# Altium footprint library Leaded.PcbLib: 147 footprints (part 1 of 10)
Each footprint in its own frame and in the unit in brackets; x right, y up, seen from the top. Pads: shape width x height; smd on the part's side, far side on the other; paste and mask are expansions set on the pad; w line width, h text height; cw(c..) or ccw(c..) is an arc to the next point about the centre after c.
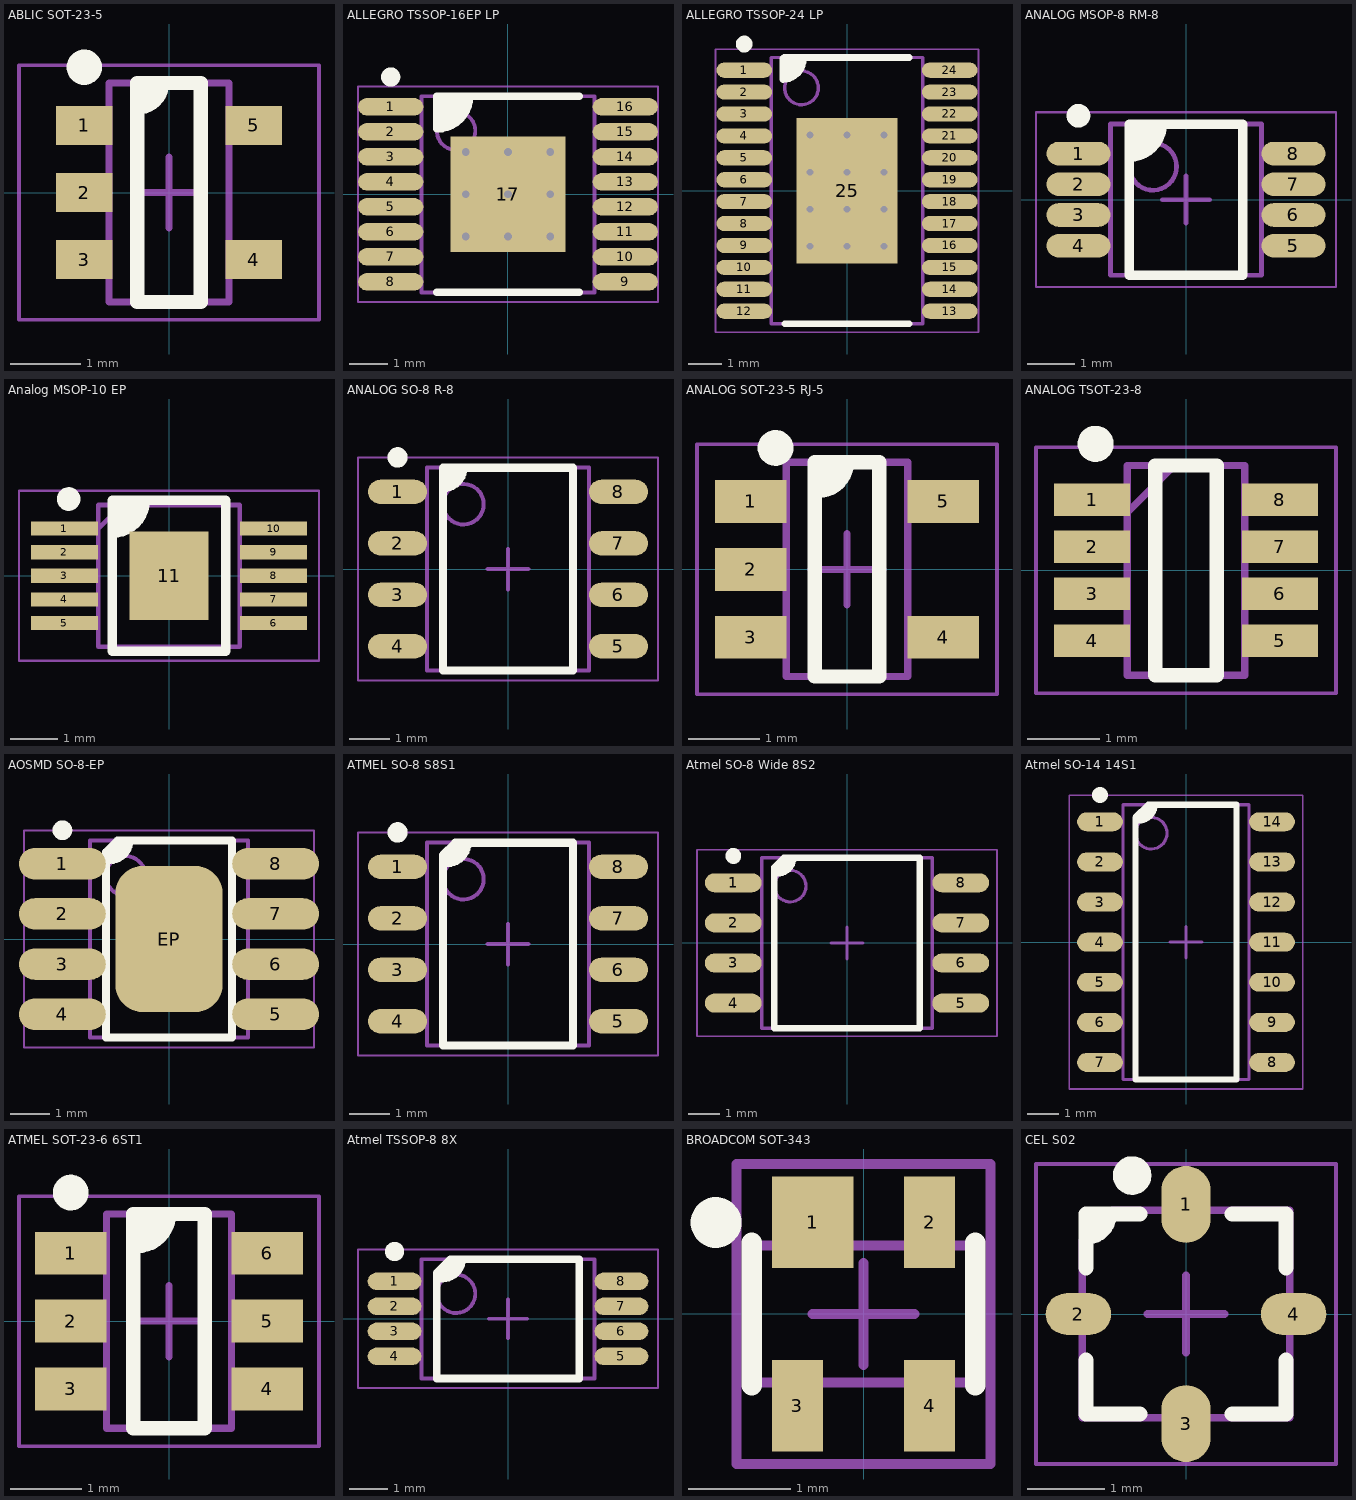
[diagram p0: the footprints below, top view; thin cyan lines are the x and y axes]

## ABLIC SOT-23-5 [mm] "SOT23, 5-Leads, Body 3.00x2.85mm, Pitch 0.95mm, IPC Medium Density"
height 1.3
pads (5):
  rect 0.8x0.55 smd: 1(-1.2,0.95) 2(-1.2,0) 3(-1.2,-0.95) 4(1.2,-0.95) 5(1.2,0.95)
Top Overlay:
  circle w0.25: c-1.2,1.775 r0.125
  region: -0.1,1.55 -0.4,1.55 -0.4,1.25 -0.45,1.2 -0.3,1.2 -0.2,1.3
  lines w0.2: -0.45,1.2 ccw(c-0.45,1.55) -0.1,1.55 ; -0.45,-1.55 -0.45,1.55 0.45,1.55 0.45,-1.55 -0.45,-1.55
Top Component Outline:
  lines w0.1: -0.85,-1.55 0.85,-1.55 0.85,1.55 -0.85,1.55 -0.85,-1.55
Top Courtyard:
  lines w0.05: -2.125,-1.8 2.125,-1.8 2.125,1.8 -2.125,1.8 -2.125,-1.8
  lines w0.1: -0.5,0 0.5,0 ; 0,-0.5 0,0.5
3D body "SOT-23-5.STEP": height 1.5, standoff 0, extent -1.41,-1.45 1.411,1.45

## ALLEGRO TSSOP-16EP LP [mm] "TSSOP, 16-Leads, Body 5.00x4.40mm, Pitch 0.65mm, Thermal Pad 3.00x3.00mm, IPC Medium Density"
height 1.2
pads (17):
  oval 1.7x0.45 smd: 1(-3.05,2.275) 2(-3.05,1.625) 3(-3.05,0.975) 4(-3.05,0.325) 5(-3.05,-0.325) 6(-3.05,-0.975) 7(-3.05,-1.625) 8(-3.05,-2.275) 9(3.05,-2.275) 10(3.05,-1.625) 11(3.05,-0.975) 12(3.05,-0.325) 13(3.05,0.325) 14(3.05,0.975) 15(3.05,1.625) 16(3.05,2.275)
  rect 3x3 smd: 17(0,0)
via 1.1,-1.1 diameter 0.5 hole 0.2
via 0,-1.1 diameter 0.5 hole 0.2
via -1.1,-1.1 diameter 0.5 hole 0.2
via 1.1,0 diameter 0.5 hole 0.2
via 0,0 diameter 0.5 hole 0.2
via -1.1,0 diameter 0.5 hole 0.2
via 1.1,1.1 diameter 0.5 hole 0.2
via 0,1.1 diameter 0.5 hole 0.2
via -1.1,1.1 diameter 0.5 hole 0.2
Top Overlay:
  circle w0.25: c-3.05,3.05 r0.125
  region: -1.85,2.55 -1,2.55 -1,2.2 -1.5,1.7 -1.85,1.7
  lines w0.2: -1.85,-2.55 1.85,-2.55 ; -1,2.55 cw(c-1.85,2.55) -1.85,1.7 -1.85,2.55 1.85,2.55
Top Component Outline:
  circle w0.1: c-1.35,1.65 r0.5
  lines w0.1: -2.25,-2.55 2.25,-2.55 2.25,2.55 -2.25,2.55 -2.25,-2.55
Top Courtyard:
  lines w0.05: -3.9,-2.8 3.9,-2.8 3.9,2.8 -3.9,2.8 -3.9,-2.8
  lines w0.1: -0.5,0 0.5,0 ; 0,-0.5 0,0.5
3D body "Allegro TSSOP-16.STEP": height 1.2, standoff 0, extent -3.206,-2.5 3.206,2.5

## ALLEGRO TSSOP-24 LP [mm] "TSSOP, 24-Leads, Body 7.80x4.40mm, Pitch 0.65mm, Thermal Pad 4.32x3.00mm, IPC Medium Density"
height 1.2
pads (25):
  oval 1.65x0.45 smd: 1(-3.05,3.575) 2(-3.05,2.925) 3(-3.05,2.275) 4(-3.05,1.625) 5(-3.05,0.975) 6(-3.05,0.325) 7(-3.05,-0.325) 8(-3.05,-0.975) 9(-3.05,-1.625) 10(-3.05,-2.275) 11(-3.05,-2.925) 12(-3.05,-3.575) 13(3.05,-3.575) 14(3.05,-2.925) 15(3.05,-2.275) 16(3.05,-1.625) 17(3.05,-0.975) 18(3.05,-0.325) 19(3.05,0.325) 20(3.05,0.975) 21(3.05,1.625) 22(3.05,2.275) 23(3.05,2.925) 24(3.05,3.575)
  rect 3x4.32 smd: 25(0,0)
via 1.1,-1.65 diameter 0.5 hole 0.2
via 0,-1.65 diameter 0.5 hole 0.2
via -1.1,-1.65 diameter 0.5 hole 0.2
via 1.1,-0.55 diameter 0.5 hole 0.2
via 0,-0.55 diameter 0.5 hole 0.2
via -1.1,-0.55 diameter 0.5 hole 0.2
via 1.1,0.55 diameter 0.5 hole 0.2
via 0,0.55 diameter 0.5 hole 0.2
via -1.1,0.55 diameter 0.5 hole 0.2
via 1.1,1.65 diameter 0.5 hole 0.2
via 0,1.65 diameter 0.5 hole 0.2
via -1.1,1.65 diameter 0.5 hole 0.2
Top Overlay:
  circle w0.25: c-3.05,4.35 r0.125
  region: -1.3,3.95 -1.3,3.9 -1.3,3.781 -1.391,3.56 -1.56,3.391 -1.781,3.3 -1.9,3.3 -1.9,3.9
  lines w0.2: -1.85,-3.95 1.85,-3.95 ; -1.3,3.95 -1.3,3.9 cw(c-1.9,3.9) -1.9,3.3 -1.9,3.9 cw(c-1.85,3.9) -1.85,3.95 1.85,3.95
Top Component Outline:
  circle w0.1: c-1.35,3.05 r0.5
  lines w0.1: -2.25,-3.95 2.25,-3.95 2.25,3.95 -2.25,3.95 -2.25,-3.95
Top Courtyard:
  lines w0.05: -3.9,-4.2 3.9,-4.2 3.9,4.2 -3.9,4.2 -3.9,-4.2
  lines w0.1: -0.5,0 0.5,0 ; 0,-0.5 0,0.5
3D body "TSSOP-24.STEP": height 1.2, standoff 0, extent -3.21,-3.9 3.211,3.9

## ANALOG MSOP-8 RM-8 [mm]
height 1.1
pads (8):
  oval 1.35x0.5 smd: 1(-2.275,0.975) 2(-2.275,0.325) 3(-2.275,-0.325) 4(-2.275,-0.975) 5(2.275,-0.975) 6(2.275,-0.325) 7(2.275,0.325) 8(2.275,0.975)
Top Overlay:
  circle w0.25: c-2.275,1.775 r0.125
  region: -1.2,1.6 -0.5,1.6 -0.5,1.3 -0.9,0.9 -1.2,0.9
  lines w0.2: -1.2,0.9 ccw(c-1.2,1.6) -0.5,1.6 ; -1.2,-1.6 -1.2,1.6 1.2,1.6 1.2,-1.6 -1.2,-1.6
Top Component Outline:
  circle w0.1: c-0.7,0.7 r0.5
  lines w0.1: -1.6,-1.6 -1.6,1.6 1.6,1.6 1.6,-1.6 -1.6,-1.6
Top Courtyard:
  lines w0.05: -3.175,-1.85 -3.175,1.85 3.175,1.85 3.175,-1.85 -3.175,-1.85
  lines w0.1: -0.5,0 0.5,0 ; 0,-0.5 0,0.5
3D body "MSOP-8.STEP": height 1.1, standoff 0, extent -2.46,-1.5 2.461,1.5

## Analog MSOP-10 EP [mm]
pads (11):
  rect 1.425x0.3 smd: 1(-2.212,1) 2(-2.212,0.5) 3(-2.212,0) 4(-2.212,-0.5) 5(-2.212,-1) 6(2.212,-1) 7(2.212,-0.5) 8(2.212,0) 9(2.212,0.5) 10(2.212,1)
  rect 1.68x1.88 smd: 11(0,0)
Top Overlay:
  circle w0.25: c-2.125,1.625 r0.125
  region: -1.2,1.6 -0.5,1.6 -0.5,1.3 -0.9,0.9 -1.2,0.9
  lines w0.2: -1.2,0.9 ccw(c-1.2,1.6) -0.5,1.6 ; -1.2,-1.6 1.2,-1.6 1.2,1.6 -1.2,1.6 -1.2,-1.6
Top Component Outline:
  lines w0.1: -1.5,1 -1,1.5 ; -1.5,-1.5 -1.5,1.5 1.5,1.5 1.5,-1.5 -1.5,-1.5
Top Courtyard:
  lines w0.05: -3.175,-1.801 -3.175,1.801 3.175,1.801 3.175,-1.801 -3.175,-1.801
  lines w0.1: -0.5,0 0.5,0 ; 0,-0.5 0,0.5
3D body "ANALOG MSOP-10 EP.STEP": height 1.25, standoff 0, extent -2.45,-1.5 2.45,1.5

## ANALOG SO-8 R-8 [mm] "SOIC, 8-Leads, Body 4.90x3.90mm, Pitch 1.27mm, IPC Medium Density"
height 1.75
pads (8):
  oval 1.45x0.6 smd: 1(-2.725,1.905) 2(-2.725,0.635) 3(-2.725,-0.635) 4(-2.725,-1.905) 5(2.725,-1.905) 6(2.725,-0.635) 7(2.725,0.635) 8(2.725,1.905)
Top Overlay:
  circle w0.25: c-2.725,2.755 r0.125
  region: -1.6,2.5 -1.1,2.5 -1.1,2.3 -1.4,2 -1.6,2
  lines w0.2: -1.6,2 ccw(c-1.6,2.5) -1.1,2.5 ; -1.6,-2.5 1.6,-2.5 1.6,2.5 -1.6,2.5 -1.6,-2.5
Top Component Outline:
  circle w0.1: c-1.1,1.6 r0.5
  lines w0.1: -2,-2.5 2,-2.5 2,2.5 -2,2.5 -2,-2.5
Top Courtyard:
  lines w0.05: -3.7,-2.75 3.7,-2.75 3.7,2.75 -3.7,2.75 -3.7,-2.75
  lines w0.1: -0.5,0 0.5,0 ; 0,-0.5 0,0.5
3D body "ANALOG SO-8 R-8.step": height 1.75, standoff 0, extent -3,-2.5 3,2.5

## ANALOG SOT-23-5 RJ-5 [mm] "SOT23, 5-Leads, Body 2.90x2.80mm, Pitch 0.95mm, IPC Medium Density"
height 1.3
pads (5):
  rect 1x0.6 smd: 1(-1.35,0.95) 2(-1.35,0) 3(-1.35,-0.95) 4(1.35,-0.95) 5(1.35,0.95)
Top Overlay:
  circle w0.25: c-1,1.7 r0.125
  region: -0.45,1.5 0,1.5 0,1.4 -0.3,1.1 -0.45,1.1
  lines w0.2: -0.45,1.1 -0.4,1.1 ccw(c-0.4,1.5) 0,1.5 ; -0.45,-1.5 -0.45,1.5 0.45,1.5 0.45,-1.5 -0.45,-1.5
Top Component Outline:
  lines w0.1: -0.85,-1.5 0.85,-1.5 0.85,1.5 -0.85,1.5 -0.85,-1.5
Top Courtyard:
  lines w0.05: -2.1,-1.75 2.1,-1.75 2.1,1.75 -2.1,1.75 -2.1,-1.75
  lines w0.1: -0.5,0 0.5,0 ; 0,-0.5 0,0.5
3D body "SOT-23-5.STEP": height 1.5, standoff 0, extent -1.411,-1.45 1.41,1.45

## ANALOG TSOT-23-8 [mm]
pads (8):
  rect 1.05x0.45 smd: 1(-1.3,0.975) 2(-1.3,0.325) 3(-1.3,-0.325) 4(-1.3,-0.975) 5(1.3,-0.975) 6(1.3,-0.325) 7(1.3,0.325) 8(1.3,0.975)
Top Overlay:
  circle w0.25: c-1.25,1.75 r0.125
  lines w0.2: -0.425,-1.45 -0.425,1.45 0.425,1.45 0.425,-1.45 -0.425,-1.45
Top Component Outline:
  lines w0.1: -0.812,0.8 -0.162,1.45 ; -0.812,-1.45 -0.812,1.45 0.812,1.45 0.812,-1.45 -0.812,-1.45
Top Courtyard:
  lines w0.05: -2.075,-1.7 -2.075,1.7 2.075,1.7 2.075,-1.7 -2.075,-1.7
3D body "LTC2960ITS8-1#PBF.stp": height 1, standoff 0, extent -1.4,-1.45 1.4,1.45

## AOSMD SO-8-EP [mm] "SOIC, 8-Leads, Body 4.90x3.90mm, Pitch 1.27mm, IPC Medium Density"
height 1.75
pads (9):
  oval 2.2x0.8 smd: 1(-2.7,1.905) 2(-2.7,0.635) 3(-2.7,-0.635) 4(-2.7,-1.905) 5(2.7,-1.905) 6(2.7,-0.635) 7(2.7,0.635) 8(2.7,1.905)
  rrect50% 2.71x3.7 smd: EP(0,0)
Top Overlay:
  circle w0.25: c-2.7,2.755 r0.125
  region: -1.3,2.5 -1,2.5 -1,2.401 -1.076,2.217 -1.217,2.076 -1.401,2 -1.5,2 -1.6,2 -1.6,2.2
  lines w0.2: -1.6,2 -1.5,2 ccw(c-1.5,2.5) -1,2.5 ; -1.6,-2.5 1.6,-2.5 1.6,2.5 -1.3,2.5 -1.6,2.2 -1.6,-2.5
Top Component Outline:
  circle w0.1: c-1.1,1.6 r0.5
  lines w0.1: -2,-2.5 -2,2.5 2,2.5 2,-2.5 -2,-2.5
Top Courtyard:
  lines w0.05: -3.675,-2.75 -3.675,2.75 3.675,2.75 3.675,-2.75 -3.675,-2.75
  lines w0.1: -0.5,0 0.5,0 ; 0,-0.5 0,0.5
3D body "SO-8.STEP": height 1.5, standoff 0, extent -3.014,-2.45 3.014,2.45

## ATMEL SO-8 S8S1 [mm] "SOIC, 8-Leads, Body 4.89x3.90mm, Pitch 1.27mm, IPC Medium Density"
height 1.75
pads (8):
  oval 1.45x0.6 smd: 1(-2.725,1.905) 2(-2.725,0.635) 3(-2.725,-0.635) 4(-2.725,-1.905) 5(2.725,-1.905) 6(2.725,-0.635) 7(2.725,0.635) 8(2.725,1.905)
Top Overlay:
  circle w0.25: c-2.725,2.755 r0.125
  region: -1.3,2.5 -1,2.5 -1,2.401 -1.076,2.217 -1.217,2.076 -1.401,2 -1.5,2 -1.6,2 -1.6,2.2
  lines w0.2: -1.6,2 -1.5,2 ccw(c-1.5,2.5) -1,2.5 ; -1.6,-2.5 -1.6,2.2 -1.3,2.5 1.6,2.5 1.6,-2.5 -1.6,-2.5
Top Component Outline:
  circle w0.1: c-1.1,1.6 r0.5
  lines w0.1: -2,-2.5 2,-2.5 2,2.5 -2,2.5 -2,-2.5
Top Courtyard:
  lines w0.05: -3.7,-2.75 3.7,-2.75 3.7,2.75 -3.7,2.75 -3.7,-2.75
  lines w0.1: -0.5,0 0.5,0 ; 0,-0.5 0,0.5
3D body "SO-8.STEP": height 1.5, standoff 0, extent -3.014,-2.45 3.014,2.45

## Atmel SO-8 Wide 8S2 [mm] "SOIC, 8-Leads, Body 5.24x5.29mm, Pitch 1.27mm, IPC Medium Density"
height 2.16
pads (8):
  oval 1.8x0.6 smd: 1(-3.6,1.905) 2(-3.6,0.635) 3(-3.6,-0.635) 4(-3.6,-1.905) 5(3.6,-1.905) 6(3.6,-0.635) 7(3.6,0.635) 8(3.6,1.905)
Top Overlay:
  circle w0.25: c-3.6,2.755 r0.125
  region: -2,2.7 -1.7,2.7 -1.7,2.601 -1.776,2.417 -1.917,2.276 -2.101,2.2 -2.2,2.2 -2.3,2.2 -2.3,2.4
  lines w0.2: -2.3,2.2 -2.2,2.2 ccw(c-2.2,2.7) -1.7,2.7 ; -2.3,-2.7 2.3,-2.7 2.3,2.7 -2,2.7 -2.3,2.4 -2.3,-2.7
Top Component Outline:
  circle w0.1: c-1.8,1.8 r0.5
  lines w0.1: -2.7,-2.7 2.7,-2.7 2.7,2.7 -2.7,2.7 -2.7,-2.7
Top Courtyard:
  lines w0.05: -4.75,-2.95 4.75,-2.95 4.75,2.95 -4.75,2.95 -4.75,-2.95
  lines w0.1: -0.5,0 0.5,0 ; 0,-0.5 0,0.5
3D body "SO-8 208mil.STEP": height 1.5, standoff 0, extent -4.014,-2.642 4.014,2.641

## Atmel SO-14 14S1 [mm] "SOIC, 14-Leads, Body 8.65x3.90mm, Pitch 1.27mm, IPC Medium Density"
height 1.75
pads (14):
  oval 1.45x0.6 smd: 1(-2.725,3.81) 2(-2.725,2.54) 3(-2.725,1.27) 4(-2.725,0) 5(-2.725,-1.27) 6(-2.725,-2.54) 7(-2.725,-3.81) 8(2.725,-3.81) 9(2.725,-2.54) 10(2.725,-1.27) 11(2.725,0) 12(2.725,1.27) 13(2.725,2.54) 14(2.725,3.81)
Top Overlay:
  circle w0.25: c-2.725,4.66 r0.125
  region: -1.3,4.35 -1,4.35 -1,4.251 -1.076,4.067 -1.217,3.926 -1.401,3.85 -1.5,3.85 -1.6,3.85 -1.6,4.05
  lines w0.2: -1.6,3.85 -1.5,3.85 ccw(c-1.5,4.35) -1,4.35 ; -1.6,-4.35 1.6,-4.35 1.6,4.35 -1.2,4.35 -1.6,3.95 -1.6,-4.35
Top Component Outline:
  circle w0.1: c-1.1,3.45 r0.5
  lines w0.1: -2,-4.35 -2,4.35 2,4.35 2,-4.35 -2,-4.35
Top Courtyard:
  lines w0.05: -3.7,-4.65 -3.7,4.65 3.7,4.65 3.7,-4.65 -3.7,-4.65
  lines w0.1: -0.5,0 0.5,0 ; 0,-0.5 0,0.5
3D body "SO-14 150mil Wide.STEP": height 1.65, standoff 0, extent -3.01,-4.325 3.01,4.325

## ATMEL SOT-23-6 6ST1 [mm] "SOT23, 6-Leads, Body 2.90x2.80mm, Pitch 0.95mm, IPC Medium Density"
height 1.45
pads (6):
  rect 1x0.6 smd: 1(-1.375,0.95) 2(-1.375,0) 3(-1.375,-0.95) 4(1.375,-0.95) 5(1.375,0) 6(1.375,0.95)
Top Overlay:
  circle w0.25: c-1.375,1.8 r0.125
  region: -0.5,1.5 0,1.5 0,1.35 -0.3,1.05 -0.5,1.05
  lines w0.2: -0.5,1.05 -0.45,1.05 ccw(c-0.45,1.5) 0,1.5 ; -0.5,-1.5 -0.5,1.5 0.5,1.5 0.5,-1.5 -0.5,-1.5
Top Component Outline:
  lines w0.1: -0.875,-1.5 0.875,-1.5 0.875,1.5 -0.875,1.5 -0.875,-1.5
Top Courtyard:
  lines w0.05: -2.1,-1.75 2.1,-1.75 2.1,1.75 -2.1,1.75 -2.1,-1.75
  lines w0.1: -0.5,0 0.5,0 ; 0,-0.5 0,0.5
3D body "sot-23-6-atmel.STEP": height 1.45, standoff 0, extent -1.41,-1.45 1.41,1.45

## Atmel TSSOP-8 8X [mm] "TSSOP, 8-Leads, Body 3.00x4.40mm, Pitch 0.65mm, IPC Medium Density"
height 1.2
pads (8):
  oval 1.4x0.45 smd: 1(-2.95,0.975) 2(-2.95,0.325) 3(-2.95,-0.325) 4(-2.95,-0.975) 5(2.95,-0.975) 6(2.95,-0.325) 7(2.95,0.325) 8(2.95,0.975)
Top Overlay:
  circle w0.25: c-2.95,1.75 r0.125
  region: -1.5,1.55 -1.2,1.55 -1.2,1.451 -1.276,1.267 -1.417,1.126 -1.601,1.05 -1.7,1.05 -1.8,1.05 -1.8,1.25
  lines w0.2: -1.8,1.05 -1.7,1.05 ccw(c-1.7,1.55) -1.2,1.55 ; -1.85,-1.55 1.85,-1.55 1.85,1.55 -1.5,1.55 -1.85,1.2 -1.85,-1.55
Top Component Outline:
  circle w0.1: c-1.35,0.65 r0.5
  lines w0.1: -2.25,-1.55 -2.25,1.55 2.25,1.55 2.25,-1.55 -2.25,-1.55
Top Courtyard:
  lines w0.05: -3.9,-1.8 -3.9,1.8 3.9,1.8 3.9,-1.8 -3.9,-1.8
  lines w0.1: -0.5,0 0.5,0 ; 0,-0.5 0,0.5
3D body "TSSOP-8.STEP": height 1.2, standoff 0, extent -3.21,-1.5 3.211,1.5

## BROADCOM SOT-343 [mm] "SOT343, 4-Leads, Body 2.3x2.4mm (max), Pitch 1.30mm, IPC High Density"
height 1.2
pads (4):
  rect 0.8x0.9 smd: 1(-0.5,0.9)
  rect 0.5x0.9 smd: 2(0.65,0.9) 3(-0.65,-0.9) 4(0.65,-0.9)
Top Overlay:
  circle w0.25: c-1.45,0.9 r0.125
  lines w0.2: -1.1,-0.7 -1.1,0.7 ; 1.1,-0.7 1.1,0.7
Top Component Outline:
  lines w0.1: -1.125,-0.675 1.125,-0.675 1.125,0.675 -1.125,0.675 -1.125,-0.675
Top Courtyard:
  lines w0.1: -0.5,0 0.5,0 ; 0,-0.5 0,0.5 ; -1.25,-1.475 1.25,-1.475 1.25,1.475 -1.25,1.475 -1.25,-1.475
3D body "SOT343-4.STEP": height 1, standoff 0, extent -1.1,-1.1 1.1,1.1

## CEL S02 [mm] "S02, 4-Leads, Body 3.20x3.20mm, Pitch 1.270mm, IPC High Density"
height 1.5
pads (4):
  oval 0.64x1 smd: 1(0,1.425) 3(0,-1.425)
  oval 0.85x0.54 smd: 2(-1.4,0) 4(1.4,0)
Top Overlay:
  circle w0.25: c-0.7,1.8 r0.125
  region: -1,1.3 -1.3,1.3 -1.3,1 -1.2,1 -1,1.2
  lines w0.2: -1.3,-0.6 -1.3,-1.3 -0.6,-1.3 ; -1.3,0.6 -1.3,1.3 -0.6,1.3 ; -1.3,1 ccw(c-1.3,1.3) -1,1.3 ; 0.6,-1.3 1.3,-1.3 1.3,-0.6 ; 0.6,1.3 1.3,1.3 1.3,0.6
Top Component Outline:
  lines w0.1: -1.35,-1.35 -1.35,0.95 -0.95,1.35 1.35,1.35 1.35,-1.35 -1.35,-1.35
Top Courtyard:
  lines w0.05: -1.95,-1.95 -1.95,1.95 1.95,1.95 1.95,-1.95 -1.95,-1.95
  lines w0.1: -0.5,0 0.5,0 ; 0,-0.5 0,0.5
3D body "CEL S02 MiniX.STEP": height 1.5, standoff -0.01, extent -1.6,-1.6 1.6,1.6